# Altium schematic symbol library Xtal1.SchLib: 2 symbols
Pins are listed as number, name and electrical type; pins without a type are passive.

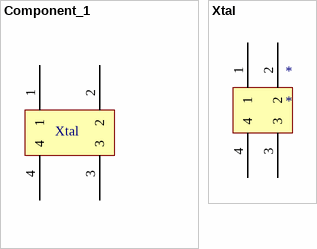
[diagram p0: symbols Component_1 to Xtal]

## Component_1
designator *
footprint xtal1
pins: 1, 2, 3, 4
text: Xtal

## Xtal
designator *
footprint xtal1
pins: 1, 2, 3, 4